# EAGLE library part M50-36111042 (library vikc-connector)
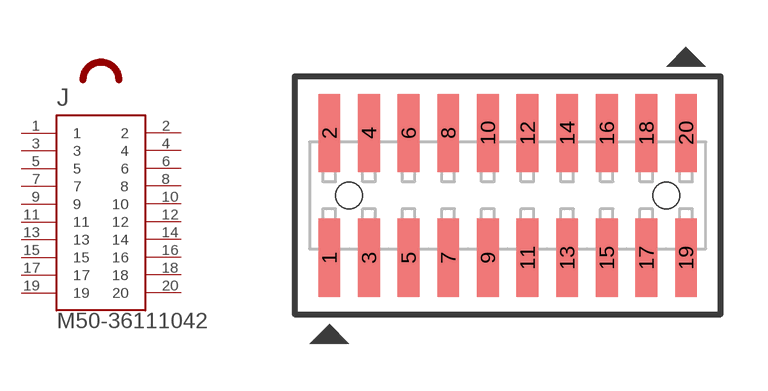
[diagram p9: symbol with the pads of M50-3611042; footprint M50-3611042]

Designator prefix J

## M50-36111042J (AVAILABILITY: Unavailable; DESCRIPTION: Conn Unshrouded Header HDR 20 POS 1.27mm Solder ST SMD T/R; MF: Samtec; MP: FTSH-110-01-S-DV-A-P-TR; PACKAGE: None; PRICE: None)  [M50-3611042]
1  1  pas
2  2  pas
3  3  pas
4  4  pas
5  5  pas
6  6  pas
7  7  pas
8  8  pas
9  9  pas
10  10  pas
11  11  pas
12  12  pas
13  13  pas
14  14  pas
15  15  pas
16  16  pas
17  17  pas
18  18  pas
19  19  pas
20  20  pas

## Footprint M50-3611042 (pad centres in mm)
translated Allegro footprint
smd 0.7 x 2.5: 1 -5.715,-2; 2 -5.715,2; 3 -4.445,-2; 4 -4.445,2; 5 -3.175,-2; 6 -3.175,2; 7 -1.905,-2; 8 -1.905,2; 9 -0.635,-2; 10 -0.635,2; 11 0.635,-2; 12 0.635,2; 13 1.905,-2; 14 1.905,2; 15 3.175,-2; 16 3.175,2; 17 4.445,-2; 18 4.445,2; 19 5.715,-2; 20 5.715,2
hole 0.85 at -5.08,0
hole 0.85 at 5.08,0